# Altium schematic symbol library Voltage_Reference_Sch.SchLib: 1 symbol
Pins are listed as number, name and electrical type; pins without a type are passive.

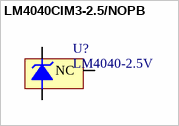
[diagram p0: symbol LM4040CIM3-2.5/NOPB]

## LM4040CIM3-2.5/NOPB
designator U?, comment LM4040-2.5V
Precision Micropower Shunt Voltage Reference, 3-pin SOT-23, Pb-Free; Manufacturer: National Semiconductor; PowerWise: N; PackageTopMarking: R2C*XTT; CompType: Voltage Reference IC; PackageDescription: Molded SOT-23, .115 x .051 x .037in Body, 3 Lead, .075 in Pitch; ComponentLink3URL: http://www.national.com/packaging/folders/mf03a.html; ComponentLink3Description: MF03A Package Page; RoHS: Y; PinCount: 3; DatasheetVersion: Apr-2005; PackageReference: MF03A; RevisionNote: Component URLs added; ComponentLink2URL: http://www.national.com/pf/LM/LM4040.html; PackageVersion: revB, Mar-2003; ComponentLink2Description: LM4040 Web Page; ComponentLink1URL: http://www.national.com/ds/LM/LM4040.pdf; ComponentLink1Description: LM4040 Datasheet
footprint MF03A_L (SOT23, 3-Leads, Body 2.9x1.3mm, Pitch 0.95mm, Lead Span 2.4mm, IPC High Density)
footprint MF03A_M (SOT23, 3-Leads, Body 2.9x1.3mm, Pitch 0.95mm, Lead Span 2.4mm, IPC Low Density)
footprint MF03A_N (SOT23, 3-Leads, Body 2.9x1.3mm, Pitch 0.95mm, Lead Span 2.4mm, IPC Medium Density)
pins: 1 +V, 2 -V, 3 NC